# Altium schematic symbol library ESP8266EX.SchLib: 1 symbol
Pins are listed as number, name and electrical type; pins without a type are passive.

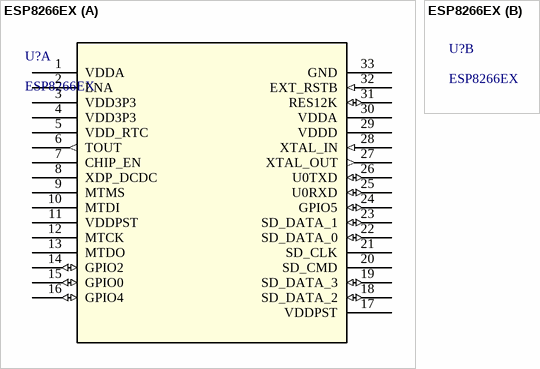
[diagram p0: symbol ESP8266EX]

## ESP8266EX
designator U?
No Description Available; Built_By: EMA_Justin; Vendor: Espressif Systems; SourceLibrary: Espressif_Systems_2020-04-01; Datasheet: https://www.mouser.com/datasheet/2/891/0a-esp8266ex_datasheet_en-1223899.pdf; Copyright: Copyright (C) 2018 Accelerated Designs. All rights reserved; Manufacturer_Part_Number: ESP8266EX; RefDes: RefDes; Type: DEV
footprint ESP8266EX_EXP
part A pins: 1 VDDA (power), 2 LNA, 3 VDD3P3 (power), 4 VDD3P3 (power), 5 VDD_RTC (power), 6 TOUT (out), 7 CHIP_EN, 8 XDP_DCDC, 9 MTMS, 10 MTDI, 11 VDDPST (power), 12 MTCK, 13 MTDO, 14 GPIO2 (io), 15 GPIO0 (io), 16 GPIO4 (io), 17 VDDPST (power), 18 SD_DATA_2 (io), 19 SD_DATA_3 (io), 20 SD_CMD, 21 SD_CLK, 22 SD_DATA_0 (io), 23 SD_DATA_1 (io), 24 GPIO5 (io), 25 U0RXD (io), 26 U0TXD (io), 27 XTAL_OUT (out), 28 XTAL_IN (in), 29 VDDD (power), 30 VDDA (power), 31 RES12K (io), 32 EXT_RSTB (in), 33 GND